# EAGLE library part ARDUINO-DUE (library custom)
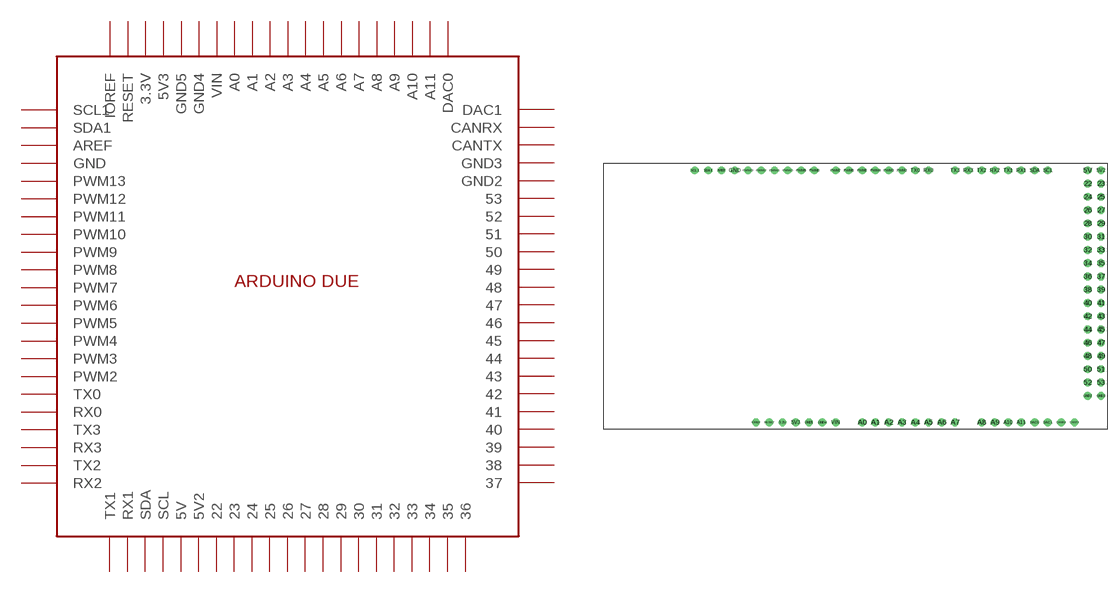
[diagram p11: symbol with the pads of ARDUINO-DUE; footprint ARDUINO-DUE]

Designator prefix -

## ARDUINO-DUE  [ARDUINO-DUE]
3.3V  3.3V
5V  5V
5V2  5V2
5V3  5V3
22  22
23  23
24  24
25  25
26  26
27  27
28  28
29  29
30  30
31  31
32  32
33  33
34  34
35  35
36  36
37  37
38  38
39  39
40  40
41  41
42  42
43  43
44  44
45  45
46  46
47  47
48  48
49  49
50  50
51  51
52  52
53  53
A0  A0
A1  A1
A2  A2
A3  A3
A4  A4
A5  A5
A6  A6
A7  A7
A8  A8
A9  A9
A10  A10
A11  A11
AREF  AREF
CANRX  CANRX
CANTX  CANTX
DAC0  DAC0
DAC1  DAC1
GND  GND
GND2  GND2
GND3  GND3
GND4  GND4
GND5  GND5
IOREF  IOREF
PWM2  PWM2
PWM3  PWM3
PWM4  PWM4
PWM5  PWM5
PWM6  PWM6
PWM7  PWM7
PWM8  PWM8
PWM9  PWM9
PWM10  PWM10
PWM11  PWM11
PWM12  PWM12
PWM13  PWM13
RESET  RESET
RX0  RX0
RX1  RX1
RX2  RX2
RX3  RX3
SCL  SCL
SCL1  SCL1
SDA  SDA
SDA1  SDA1
TX0  TX0
TX1  TX1
TX2  TX2
TX3  TX3
VIN  VIN

## Footprint ARDUINO-DUE (pad centres in mm)
drill 1: 3.3V -17.78,-25.4; 5V 40.64,22.86; 5V2 43.18,22.86; 5V3 -15.24,-25.4; 22 40.64,20.32; 23 43.18,20.32; 24 40.64,17.78; 25 43.18,17.78; 26 40.64,15.24; 27 43.18,15.24; 28 40.64,12.7; 29 43.18,12.7; 30 40.64,10.16; 31 43.18,10.16; 32 40.64,7.62; 33 43.18,7.62; 34 40.64,5.08; 35 43.18,5.08; 36 40.64,2.54; 37 43.18,2.54; 38 40.64,0; 39 43.18,0; 40 40.64,-2.54; 41 43.18,-2.54; 42 40.64,-5.08; 43 43.18,-5.08; 44 40.64,-7.62; 45 43.18,-7.62; 46 40.64,-10.16; 47 43.18,-10.16; 48 40.64,-12.7; 49 43.18,-12.7; 50 40.64,-15.24; 51 43.18,-15.24; 52 40.64,-17.78; 53 43.18,-17.78; A0 -2.54,-25.4; A1 0,-25.4; A2 2.54,-25.4; A3 5.08,-25.4; A4 7.62,-25.4; A5 10.16,-25.4; A6 12.7,-25.4; A7 15.24,-25.4; A8 20.32,-25.4; A9 22.86,-25.4; A10 25.4,-25.4; A11 27.94,-25.4; AREF -29.464,22.86; CANRX 35.56,-25.4; CANTX 38.1,-25.4; DAC0 30.48,-25.4; DAC1 33.02,-25.4; GND -26.924,22.86; GND2 40.64,-20.32; GND3 43.18,-20.32; GND4 -10.16,-25.4; GND5 -12.7,-25.4; IOREF -22.86,-25.4; PWM2 5.08,22.86; PWM3 2.54,22.86; PWM4 0,22.86; PWM5 -2.54,22.86; PWM6 -5.08,22.86; PWM7 -7.62,22.86; PWM8 -11.684,22.86; PWM9 -14.224,22.86; PWM10 -16.764,22.86; PWM11 -19.304,22.86; PWM12 -21.844,22.86; PWM13 -24.384,22.86; RESET -20.32,-25.4; RX0 10.16,22.86; RX1 27.94,22.86; RX2 22.86,22.86; RX3 17.78,22.86; SCL 33.02,22.86; SCL1 -34.544,22.86; SDA 30.48,22.86; SDA1 -32.004,22.86; TX0 7.62,22.86; TX1 25.4,22.86; TX2 20.32,22.86; TX3 15.24,22.86; VIN -7.62,-25.4